# Altium schematic symbol library RobotKit.SchLib: 64 symbols
Pins are listed as number, name and electrical type; pins without a type are passive.

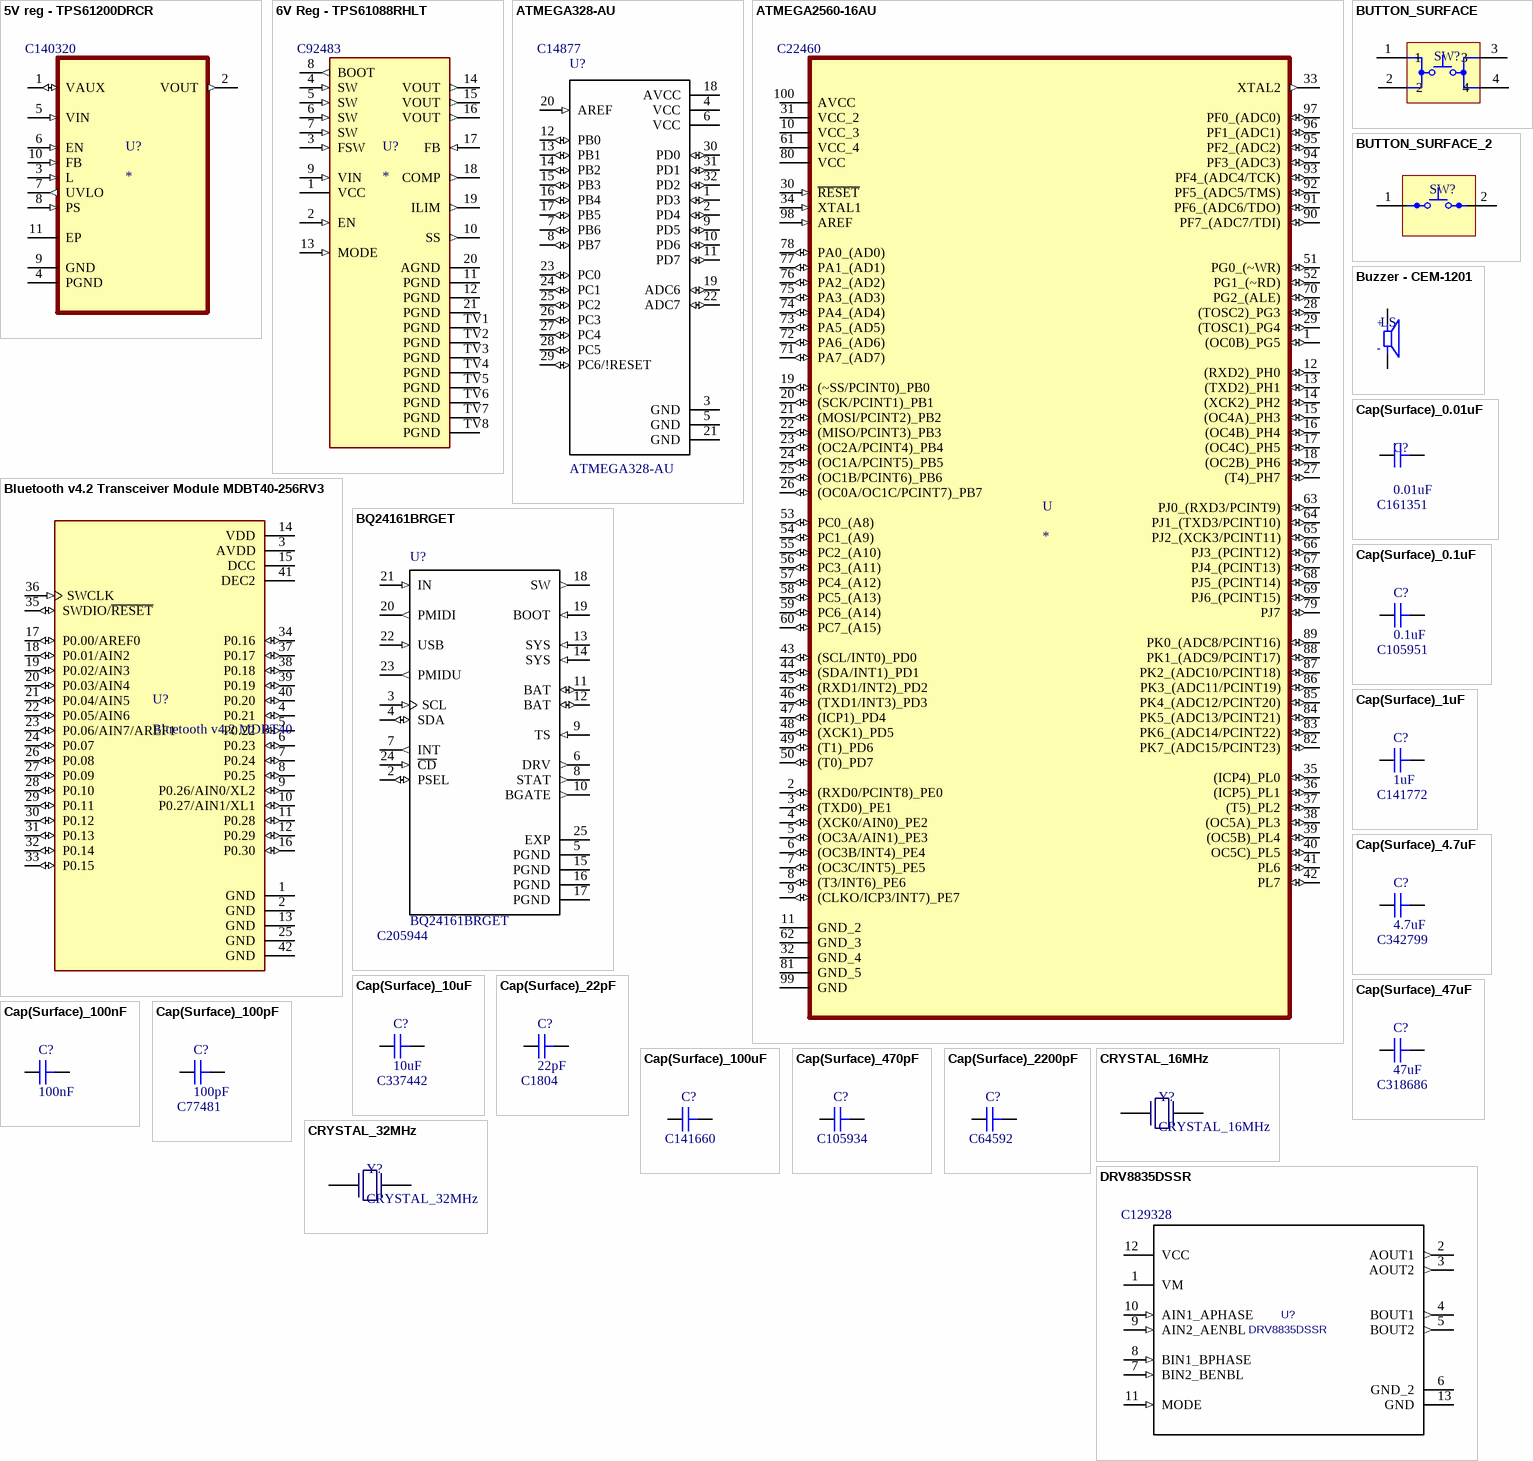
[diagram p0: symbols 5V reg - TPS61200DRCR to DRV8835DSSR]

## 5V reg - TPS61200DRCR
designator U?  Supplier Part Number 1: C140320
Boost Switching Regulator IC Positive Adjustable 1.8V 1 Output 1.2A _Switch_ 10-VFDFN Exposed Pad; MP: TPS61200DRCR; MF: Texas Instruments; Package: VFDFN-10 Texas Instruments; Price: None; Availability: Unavailable; Value: *; SnapEDA_Link: https://www.snapeda.com/parts/TPS61200DRCR/Texas%20Instruments/view-part/48003/?ref=snap; Supplier 1: LCSC
footprint 5V Reg - SON50P300X300X100-11N
pins: 1 VAUX (io), 2 VOUT (out), 3 L (in), 4 PGND, 5 VIN (in), 6 EN (in), 7 UVLO (out), 8 PS (in), 9 GND, 10 FB (in), 11 EP

## 6V Reg - TPS61088RHLT
designator U?  Supplier Part Number 1: C92483
Boost Switching Regulator IC Positive Adjustable 4.5V 1 Output 10A 20-VFQFN Exposed Pad; MF: Texas Instruments; MP: TPS61088RHLT; Price: None; Value: *; Package: VQFN-20 Texas Instruments; SnapEDA_Link: https://www.snapeda.com/parts/TPS61088RHLT/Texas%20Instruments/view-part/229886/?ref=snap; Availability: Unavailable; Supplier 1: LCSC
footprint 6V Reg - CONV_TPS61088RHLT
pins: 1 VCC (power), 2 EN (in), 3 FSW (in), 4 SW (in), 5 SW (in), 6 SW (in), 7 SW (in), 8 BOOT (out), 9 VIN (in), 10 SS (out), 11 PGND (power), 12 PGND (power), 13 MODE (in), 14 VOUT (out), 15 VOUT (out), 16 VOUT (out), 17 FB (in), 18 COMP (out), 19 ILIM (out), 20 AGND (power), 21 PGND (power), TV1 PGND (power), TV2 PGND (power), TV3 PGND (power), TV4 PGND (power), TV5 PGND (power), TV6 PGND (power), TV7 PGND (power), TV8 PGND (power)

## ATMEGA328-AU
designator U?  Supplier Part Number 1: C14877
AVR AVRÂ® ATmega Microcontroller IC 8-Bit 20MHz 32KB _16K x 16_ FLASH 32-TQFP _7x7_; MF: Microchip; Package: TQFP-32 Microchip; MP: ATMEGA328-AU; SnapEDA_Link: https://www.snapeda.com/parts/ATMEGA328-AU/Microchip/view-part/1227240/?ref=snap; Availability: Unavailable; Price: None; Value: *; Supplier 1: LCSC
footprint ATMEGA328 - QFP80P900X900X120-32N
pins: 1 PD3 (io), 2 PD4 (io), 3 GND (power), 4 VCC (power), 5 GND (power), 6 VCC (power), 7 PB6 (io), 8 PB7 (io), 9 PD5 (io), 10 PD6 (io), 11 PD7 (io), 12 PB0 (io), 13 PB1 (io), 14 PB2 (io), 15 PB3 (io), 16 PB4 (io), 17 PB5 (io), 18 AVCC (power), 19 ADC6 (io), 20 AREF (in), 21 GND (power), 22 ADC7 (io), 23 PC0 (io), 24 PC1 (io), 25 PC2 (io), 26 PC3 (io), 27 PC4 (io), 28 PC5 (io), 29 PC6/!RESET (io), 30 PD0 (io), 31 PD1 (io), 32 PD2 (io)

## ATMEGA2560-16AU
designator U  Supplier Part Number 1: C22460
AVR AVRÂ® ATmega Microcontroller IC 8-Bit 16MHz 256KB _128K x 16_ FLASH 100-TQFP _14x14_; MF: Microchip; MP: ATMEGA2560-16AU; Package: TQFP-100 Adesto Technologies; Price: None; Availability: Unavailable; SnapEDA_Link: https://www.snapeda.com/parts/ATMEGA2560-16AU/Microchip/view-part/54180/?ref=snap; Value: *; Supplier 1: LCSC
footprint ATMEGA2560-16AU
pins: 1 (OC0B)_PG5 (io), 2 (RXD0/PCINT8)_PE0 (io), 3 (TXD0)_PE1 (io), 4 (XCK0/AIN0)_PE2 (io), 5 (OC3A/AIN1)_PE3 (io), 6 (OC3B/INT4)_PE4 (io), 7 (OC3C/INT5)_PE5 (io), 8 (T3/INT6)_PE6 (io), 9 (CLKO/ICP3/INT7)_PE7 (io), 10 VCC_3 (power), 11 GND_2, 12 (RXD2)_PH0 (io), 13 (TXD2)_PH1 (io), 14 (XCK2)_PH2 (io), 15 (OC4A)_PH3 (io), 16 (OC4B)_PH4 (io), 17 (OC4C)_PH5 (io), 18 (OC2B)_PH6 (io), 19 (~SS/PCINT0)_PB0 (io), 20 (SCK/PCINT1)_PB1 (io), 21 (MOSI/PCINT2)_PB2 (io), 22 (MISO/PCINT3)_PB3 (io), 23 (OC2A/PCINT4)_PB4 (io), 24 (OC1A/PCINT5)_PB5 (io), 25 (OC1B/PCINT6)_PB6 (io), 26 (OC0A/OC1C/PCINT7)_PB7 (io), 27 (T4)_PH7 (io), 28 (TOSC2)_PG3 (io), 29 (TOSC1)_PG4 (io), 30 ~{RESET} (in), 31 VCC_2 (power), 32 GND_4, 33 XTAL2 (out), 34 XTAL1 (in), 35 (ICP4)_PL0 (io), 36 (ICP5)_PL1 (io), 37 (T5)_PL2 (io), 38 (OC5A)_PL3 (io), 39 (OC5B)_PL4 (io), 40 OC5C)_PL5 (io), 41 PL6 (io), 42 PL7 (io), 43 (SCL/INT0)_PD0 (io), 44 (SDA/INT1)_PD1 (io), 45 (RXD1/INT2)_PD2 (io), 46 (TXD1/INT3)_PD3 (io), 47 (ICP1)_PD4 (io), 48 (XCK1)_PD5 (io), 49 (T1)_PD6 (io), 50 (T0)_PD7 (io), 51 PG0_(~WR) (io), 52 PG1_(~RD) (io), 53 PC0_(A8) (io), 54 PC1_(A9) (io), 55 PC2_(A10) (io), 56 PC3_(A11) (io), 57 PC4_(A12) (io), 58 PC5_(A13) (io), 59 PC6_(A14) (io), 60 PC7_(A15) (io), 61 VCC_4 (power), 62 GND_3, 63 PJ0_(RXD3/PCINT9) (io), 64 PJ1_(TXD3/PCINT10) (io), 65 PJ2_(XCK3/PCINT11) (io), 66 PJ3_(PCINT12) (io), 67 PJ4_(PCINT13) (io), 68 PJ5_(PCINT14) (io), 69 PJ6_(PCINT15) (io), 70 PG2_(ALE) (io), 71 PA7_(AD7) (io), 72 PA6_(AD6) (io), 73 PA5_(AD5) (io), 74 PA4_(AD4) (io), 75 PA3_(AD3) (io), 76 PA2_(AD2) (io), 77 PA1_(AD1) (io), 78 PA0_(AD0) (io), 79 PJ7 (io), 80 VCC (power), 81 GND_5, 82 PK7_(ADC15/PCINT23) (io), 83 PK6_(ADC14/PCINT22) (io), 84 PK5_(ADC13/PCINT21) (io), 85 PK4_(ADC12/PCINT20) (io), 86 PK3_(ADC11/PCINT19) (io), 87 PK2_(ADC10/PCINT18) (io), 88 PK1_(ADC9/PCINT17) (io), 89 PK0_(ADC8/PCINT16) (io), 90 PF7_(ADC7/TDI) (io), 91 PF6_(ADC6/TDO) (io), 92 PF5_(ADC5/TMS) (io), 93 PF4_(ADC4/TCK) (io), 94 PF3_(ADC3) (io), 95 PF2_(ADC2) (io), 96 PF1_(ADC1) (io), 97 PF0_(ADC0) (io), 98 AREF (in), 99 GND, 100 AVCC (power)

## Bluetooth v4.2 Transceiver Module MDBT40-256RV3
designator U?, comment Bluetooth v4.2 MDBT40
Bluetooth Bluetooth v4.2 Transceiver Module 2.4GHz ~ 2.483GHz Integrated, Chip Surface Mount; MF: Raytac Corporation; MP: MDBT40-256RV3; Package: SMD-42 Raytac Corporation; Value: *; Price: None; SnapEDA_Link: https://www.snapeda.com/parts/MDBT40-256RV3/Raytac%20Corporation/view-part/4503298/?ref=snap; Availability: Unavailable
footprint Bluetooth v4.2 Transceiver Module MODULE_MDBT40-256RV3
pins: 1 GND (power), 2 GND (power), 3 AVDD (power), 4 P0.21 (io), 5 P0.22 (io), 6 P0.23 (io), 7 P0.24 (io), 8 P0.25 (io), 9 P0.26/AIN0/XL2 (io), 10 P0.27/AIN1/XL1 (io), 11 P0.28 (io), 12 P0.29 (io), 13 GND (power), 14 VDD (power), 15 DCC (power), 16 P0.30 (io), 17 P0.00/AREF0 (io), 18 P0.01/AIN2 (io), 19 P0.02/AIN3 (io), 20 P0.03/AIN4 (io), 21 P0.04/AIN5 (io), 22 P0.05/AIN6 (io), 23 P0.06/AIN7/AREF1 (io), 24 P0.07 (io), 25 GND (power), 26 P0.08 (io), 27 P0.09 (io), 28 P0.10 (io), 29 P0.11 (io), 30 P0.12 (io), 31 P0.13 (io), 32 P0.14 (io), 33 P0.15 (io), 34 P0.16 (io), 35 SWDIO/~{RESET} (io), 36 SWCLK (in), 37 P0.17 (io), 38 P0.18 (io), 39 P0.19 (io), 40 P0.20 (io), 41 DEC2 (power), 42 GND (power)

## BQ24161BRGET
designator U?  Supplier Part No: C205944
Charger IC Lithium Ion/Polymer 24-VQFN _4x4_; MF: Texas Instruments; Package: VQFN-24 Texas Instruments; Price: None; MP: BQ24161BRGET; SnapEDA_Link: https://www.snapeda.com/parts/BQ24161BRGET/Texas%20Instruments/view-part/320940/?ref=snap; Availability: Unavailable; Value: *
footprint QFN50P - Charging Circuit ((Charging)QFN50P400X400X100-25N)
pins: 2 PSEL (io), 3 SCL (in), 4 SDA (io), 5 PGND (power), 6 DRV (out), 7 INT (out), 8 STAT (out), 9 TS (in), 10 BGATE (out), 11 BAT (io), 12 BAT (io), 13 SYS (in), 14 SYS (in), 15 PGND (power), 16 PGND (power), 17 PGND (power), 18 SW (out), 19 BOOT (in), 20 PMIDI (out), 21 IN (in), 22 USB (in), 23 PMIDU (out), 24 ~{CD} (in), 25 EXP (power)

## BUTTON_SURFACE
designator SW?
ALCOSWITCH - TE CONNECTIVITY - RESET BUTTON; Manufacturer: TE Connectivity Alcoswitch; Manufacturer Part Number: 1825910-6; Actuator Color: Black; Actuator Length: 1.4 mm; Actuator Material: Polybutylene Terephthalate; Body Orientation: Straight; Actuator Style: Round Button; Bushing Type: Unthreaded; Electrical Life: 100000 Cycles; Dielectric Strength: 500 VAC; Contact Rating @ Voltage: 0.05A@24VDC; Function: Momentary Contact; Maximum DC Voltage Rating: 24 V; Pole Throw Configuration: SPST; Maximum Contact Resistance: 100 mOhm; Illumination: N/R; Switch Configuration: OFF (ON); Supplier 1: Digi-Key; Stock 1: 77076; Pricing 1: 1=0.1, 10=0.093, 25=0.0892, 50=0.0862, 100=0.0814, 250=0.0766, 500=0.0734, 1000=0.0558, 5000=0.0463 (USD); Base Material: N/A; Family: 1825910; Contact Material: Copper Alloy; Contact Plating: Silver; Dimension: 5.99 x 5 mm; Part No: 1825910-6; RoHS: Yes; Maximum AC Voltage Rating: N/A; Mechanical Life: 100000 Cycles; Packaging: N/A; Housing Material: N/A; Product Weight: N/A; Mounting: Through Hole; Minimum Insulation Resistance: 100 MOhm; Operating Temperature: -35 to 85 C; Terminal Type: PC Pins; Seal Description: N/A; Seal Location: N/A; Thread Size: N/R; ComponentLink1URL: http://www.onlinecomponents.com/productFiles/mf-AMP/1825910-6rqpn1825910-6.pdf?src-supplier=Onlinecomponents.com; ComponentLink1Description: http://www.onlinecomponents.com/productFiles/mf-AMP/1825910-6rqpn1825910-6.pdf?src-supplier=Onlinecomponents.com; ComponentLink2URL: http://www.te.com/commerce/DocumentDelivery/DDEController?Action=srchrtrv&DocNm=1825910&DocType=Customer+Drawing&DocLang=English&src-supplier=Verical; ComponentLink2Description: http://www.te.com/commerce/DocumentDelivery/DDEController?Action=srchrtrv&DocNm=1825910&DocType=Customer+Drawing&DocLang=English&src-supplier=Verical; Supplier Part Number 1: 450-1650-ND
footprint SW_SMD_(button)
pins: 1, 2, 3, 4

## BUTTON_SURFACE_2
designator SW?
ALCOSWITCH - TE CONNECTIVITY - RESET BUTTON
footprint PUSH_BUTTON
pins: 1, 2

## Buzzer - CEM-1201
designator LS
12 mm, 1,5 V, 85 dB, furo passante, campainha elÃ©trica transdutora de Ã¡udio magnÃ©tica; MF: CUI Devices; MP: CEM-1201_42_; CUI_purchase_URL: https://www.cuidevices.com/product/audio/buzzers/audio-transducers/cem-1201_42_?utm_source=snapeda.com&utm_medium=referral&utm_campaign=snapedaBOM; Price: None; SnapEDA_Link: https://www.snapeda.com/parts/CEM-1201%2842%29/CUI%20Devices/view-part/2755977/?ref=snap; Value: *; Availability: Unavailable; Package: CUI Inc.
footprint Buzzer CUI_CEM-1201(42)
pins: M, P
text: +; -

## Cap(Surface)_0.01uF
designator C?, comment 0.01uF  Supplier Part No: C161351
Capacitor; Published: 23-Sep-2002; PackageReference: CAPR5-4X5; Publisher: Altium Limited; PackageDescription: Capacitor; 2 Leads; Value: 0.01uF; Supplier: LCSC
simulation model CAP (Capacitor)
signal-integrity model Cap
footprint CAP (0805)
pins: 1, 2

## Cap(Surface)_0.1uF
designator C?, comment 0.1uF  Supplier Part No: C105951
Capacitor; Published: 23-Sep-2002; PackageReference: CAPR5-4X5; Publisher: Altium Limited; PackageDescription: Capacitor; 2 Leads; Value: 0.1uF; Supplier: LCSC
simulation model CAP (Capacitor)
signal-integrity model Cap
footprint CAP (0805)
pins: 1, 2

## Cap(Surface)_1uF
designator C?, comment 1uF  Supplier Part No: C141772
Capacitor; Published: 23-Sep-2002; PackageReference: CAPR5-4X5; Publisher: Altium Limited; PackageDescription: Capacitor; 2 Leads; Value: 1uF; Supplier: LCSC
simulation model CAP (Capacitor)
signal-integrity model Cap
footprint CAP (0805)
pins: 1, 2

## Cap(Surface)_4.7uF
designator C?, comment 4.7uF  Supplier Part No: C342799
Capacitor; Published: 23-Sep-2002; PackageReference: CAPR5-4X5; Publisher: Altium Limited; PackageDescription: Capacitor; 2 Leads; Value: 4.7uF; Supplier: LCSC
simulation model CAP (Capacitor)
signal-integrity model Cap
footprint CAP (0805)
pins: 1, 2

## Cap(Surface)_10uF
designator C?, comment 10uF  Supplier Part No: C337442
Capacitor; Published: 23-Sep-2002; PackageReference: CAPR5-4X5; Publisher: Altium Limited; PackageDescription: Capacitor; 2 Leads; Value: 10uF; Supplier: LCSC
simulation model CAP (Capacitor)
signal-integrity model Cap
footprint CAP (0805)
pins: 1, 2

## Cap(Surface)_22pF
designator C?, comment 22pF  Supplier Part No: C1804
Capacitor; Published: 23-Sep-2002; PackageReference: CAPR5-4X5; Publisher: Altium Limited; PackageDescription: Capacitor; 2 Leads; Value: 22pF; Supplier: LCSC
simulation model CAP (Capacitor)
signal-integrity model Cap
footprint CAP (0805)
pins: 1, 2

## Cap(Surface)_47uF
designator C?, comment 47uF  Supplier Part No: C318686
Capacitor; Published: 23-Sep-2002; PackageReference: CAPR5-4X5; Publisher: Altium Limited; PackageDescription: Capacitor; 2 Leads; Value: 47uF; Supplier Name: LCSC
simulation model CAP (Capacitor)
signal-integrity model Cap
footprint CAP (0805)
pins: 1, 2

## Cap(Surface)_100nF
designator C?, comment 100nF
Capacitor; Published: 23-Sep-2002; PackageReference: CAPR5-4X5; Publisher: Altium Limited; PackageDescription: Capacitor; 2 Leads; Supplier 1: LCSC; Supplier Part Number 1: C307361; Value: 100nF
simulation model CAP (Capacitor)
signal-integrity model Cap
footprint CAP (0805)
pins: 1, 2

## Cap(Surface)_100pF
designator C?, comment 100pF  Supplier Part No: C77481
Capacitor; Published: 23-Sep-2002; PackageReference: CAPR5-4X5; Publisher: Altium Limited; PackageDescription: Capacitor; 2 Leads; Value: 100pF; Supplier: LCSC
simulation model CAP (Capacitor)
signal-integrity model Cap
footprint CAP (0805)
pins: 1, 2

## Cap(Surface)_100uF
designator C?, comment Supplier Part no: C141660  (hidden comment: 100uF)
Capacitor; Published: 23-Sep-2002; PackageReference: CAPR5-4X5; Publisher: Altium Limited; PackageDescription: Capacitor; 2 Leads; Value: 100uF; Supplier: LCSC
simulation model CAP (Capacitor)
signal-integrity model Cap
footprint CAP (0805)
pins: 1, 2

## Cap(Surface)_470pF
designator C?, comment Supplier Part No: C105934  (hidden comment: 470pF)
Capacitor; Published: 23-Sep-2002; PackageReference: CAPR5-4X5; Publisher: Altium Limited; PackageDescription: Capacitor; 2 Leads; Value: 470pF; Supplier: LCSC
simulation model CAP (Capacitor)
signal-integrity model Cap
footprint CAP (0805)
pins: 1, 2

## Cap(Surface)_2200pF
designator C?, comment Supplier Part No: C64592  (hidden comment: 2200pF)
Capacitor; Published: 23-Sep-2002; PackageReference: CAPR5-4X5; Publisher: Altium Limited; PackageDescription: Capacitor; 2 Leads; Value: 2200pF; Supplier: LCSC
simulation model CAP (Capacitor)
signal-integrity model Cap
footprint CAP (0805)
pins: 1, 2

## CRYSTAL_16MHz
designator Y?
Manufacturer: ECS International; Manufacturer Part Number: ECS-160-20-4X; Brand: ECS; Case Height: 3.5 mm; Case Length: 11.35 mm; Case Width: 4.65 mm; Frequency: 16 MHz; Frequency Stability: 50 PPM; Load Capacitance: 20 pF; Tolerance: 30 PPM; Dimensions: 4.65 mm W x 11.35 mm L x 3.5 mm H; Factory Pack Quantity: 200; Package / Case: HC-49/US; Operating Temperature Range: - 10 C to + 70 C; Packaging: Bulk; Mounting Style: Through Hole; Product Category: Crystals; RoHS: Details; Termination Style: Radial; Series: HCS49USX; Type: Quartz Crystals; ComponentLink1URL: http://www.ecsxtal.com/store/pdf/partnumber4.pdf?src-supplier=Digi-Key; ComponentLink1Description: http://www.ecsxtal.com/store/pdf/partnumber4.pdf?src-supplier=Digi-Key; Supplier Part No: C259047; Supplier: LCSC
footprint CRYSTAL_16MHz
footprint OSCILLATOR-RESC3215X64N
pins: 1, 2

## CRYSTAL_32MHz
designator Y?
Manufacturer: ECS International; Manufacturer Part Number: ECS-160-20-4X; Brand: ECS; Frequency: 16 MHz; Frequency Stability: 50 PPM; Load Capacitance: 20 pF; Tolerance: 30 PPM; Factory Pack Quantity: 200; Operating Temperature Range: - 10 C to + 70 C; Mounting Style: Through Hole; Product Category: Crystals; RoHS: Details; Termination Style: Radial; Series: HCS49USX; Type: Quartz Crystals; ComponentLink1URL: http://www.ecsxtal.com/store/pdf/partnumber4.pdf?src-supplier=Digi-Key; ComponentLink1Description: http://www.ecsxtal.com/store/pdf/partnumber4.pdf?src-supplier=Digi-Key
footprint OSCILLATOR-RESC3215X64N
pins: 1, 2

## DRV8835DSSR
designator U?  Supplier Part Number 1: C129328
Motor driver dual h bridge; Manufacturer: Texas Instruments; PartNumber: DRV8835DSSR; Value: Value; Supplier 1: LCSC
footprint DRV8835 (Dual H bridge motor driver)
pins: 1 VM (power), 2 AOUT1 (out), 3 AOUT2 (out), 4 BOUT1 (out), 5 BOUT2 (out), 6 GND_2 (power), 7 BIN2_BENBL (in), 8 BIN1_BPHASE (in), 9 AIN2_AENBL (in), 10 AIN1_APHASE (in), 11 MODE (in), 12 VCC (power), 13 GND (power)

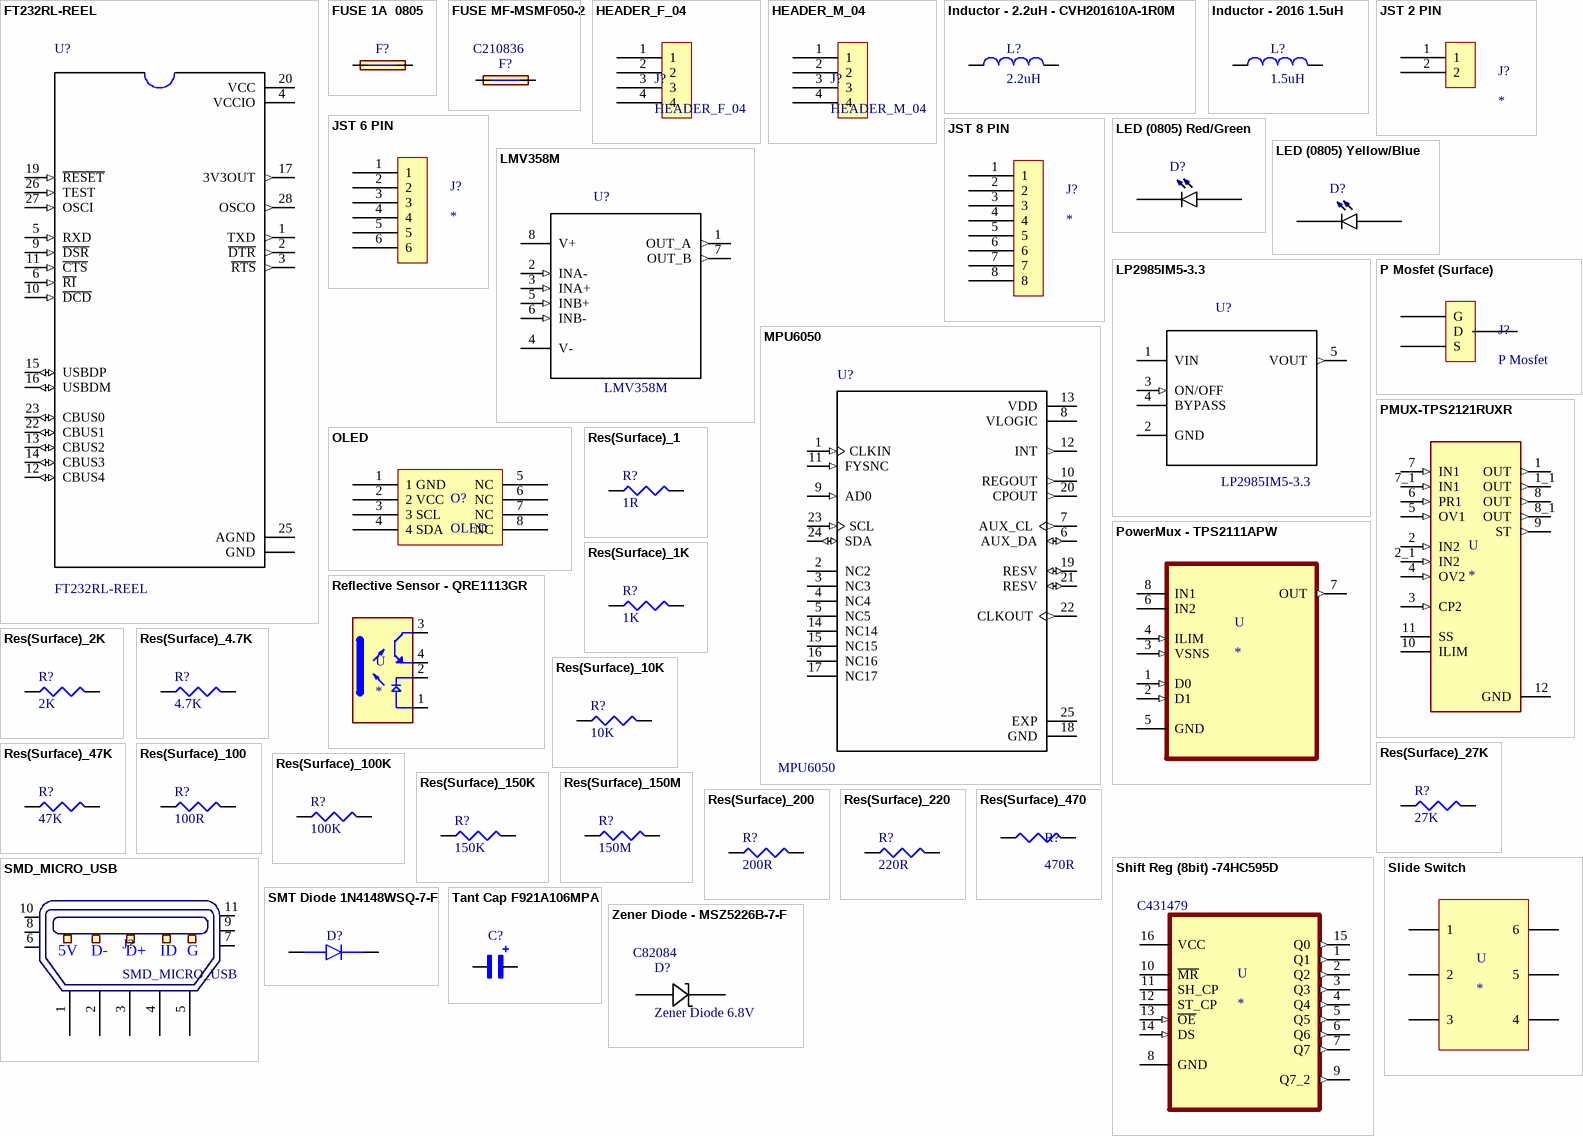
[diagram p1: symbols FT232RL-REEL to Zener Diode - MSZ5226B-7-F]

## FT232RL-REEL
designator U?
USB Bridge, USB to UART USB 2.0 UART Interface 28-SSOP; MF: FTDI,; Package: SSOP-28 FTDI; MP: FT232RL-REEL; SnapEDA_Link: https://www.snapeda.com/parts/FT232RL-REEL/FTDI%2C%20Future%20Technology%20Devices%20International%20Ltd/view-part/45427/?ref=snap; Availability: Unavailable; Price: None; Value: *; Supplier Part No: C8690; Supplier: LCSC
footprint SOP65P780X200 - FTDI (FTDI usb to serial convertor)
pins: 1 TXD (out), 2 ~{DTR} (out), 3 ~{RTS} (out), 4 VCCIO (power), 5 RXD (in), 6 ~{RI} (in), 7 GND, 9 ~{DSR} (in), 10 ~{DCD} (in), 11 ~{CTS} (in), 12 CBUS4 (io), 13 CBUS2 (io), 14 CBUS3 (io), 15 USBDP (io), 16 USBDM (io), 17 3V3OUT (out), 18 GND, 19 ~{RESET} (in), 20 VCC (power), 21 GND, 22 CBUS1 (io), 23 CBUS0 (io), 25 AGND, 26 TEST (in), 27 OSCI (in), 28 OSCO (out)

## FUSE 1A  0805
designator F?
Polymeric PTC Resettable Fuse 15V 500mA Ih Surface Mount 1812 _4532 Metric_, Concave; MF: Bourns; MP: MF-MSMF050-2; Value: *; Package: 1812 Bourns; Availability: Unavailable; SnapEDA_Link: https://www.snapeda.com/parts/MF-MSMF050-2/Bourns%20-%20J.W.%20Miller/view-part/42625/?ref=snap; Price: None; Supplier Part No: C17313; Supplier: LCSC
footprint FUSE - 0805
pins: 1, 2

## FUSE MF-MSMF050-2
designator F?  Supplier Part Number 1: C210836
Polymeric PTC Resettable Fuse 15V 500mA Ih Surface Mount 1812 _4532 Metric_, Concave; MF: Bourns; MP: MF-MSMF050-2; Value: *; Package: 1812 Bourns; Availability: Unavailable; SnapEDA_Link: https://www.snapeda.com/parts/MF-MSMF050-2/Bourns%20-%20J.W.%20Miller/view-part/42625/?ref=snap; Price: None; Supplier 1: LCSC
footprint FUSE M1812X02
pins: 1, 2

## HEADER_F_04
designator J?
Manufacturer: Wurth Electronics; Manufacturer Part Number: 61300311121; Connector Type: Header, Unshrouded; Number of Positions: 4; Number of Positions Loaded: All; Pitch: 0.100" (2.54mm); Category: Connectors, Interconnects; Family: Rectangular Connectors - Headers, Male Pins; Series: WR-PHD; Packaging: Bulk; Contact Type: Male Pin; Number of Rows: 1; Row Spacing: -; Contact Mating Length: 0.236" (6.00mm); Mounting Type: Through Hole; Termination: Solder; Fastening Type: -; Features: -; Contact Finish: Gold; Contact Finish Thickness: -; Color: Black; Supplier 1: Digi-Key; Supplier Part Number 1: 732-5317-ND
footprint HEADER_F_04
pins: 1, 2, 3, 4

## HEADER_M_04
designator J?
Manufacturer: Wurth Electronics; Manufacturer Part Number: 61300311121; Connector Type: Header, Unshrouded; Number of Positions: 4; Number of Positions Loaded: All; Pitch: 0.100" (2.54mm); Category: Connectors, Interconnects; Family: Rectangular Connectors - Headers, Male Pins; Series: WR-PHD; Packaging: Bulk; Contact Type: Male Pin; Number of Rows: 1; Row Spacing: -; Contact Mating Length: 0.236" (6.00mm); Mounting Type: Through Hole; Termination: Solder; Fastening Type: -; Features: -; Contact Finish: Gold; Contact Finish Thickness: -; Color: Black; Supplier 1: Digi-Key; Supplier Part Number 1: 732-5317-ND
footprint HEADER_M_04
pins: 1, 2, 3, 4

## Inductor - 2.2uH - CVH201610A-1R0M
designator L?, comment 2.2uH
1ÂµH Shielded Multilayer Inductor 1.4A 106.25mOhm Max 0806 _2016 Metric_; MF: Bourns; MP: CVH201610A-1R0M; Value: *; Price: None; Availability: Unavailable; Package: 2016 Taiyo Yuden; SnapEDA_Link: https://www.snapeda.com/parts/CVH201610A-1R0M/Bourns/view-part/4258525/?ref=snap; Supplier Part No: C375949; Supplier: LCSC
footprint INDUCTOR _ C2016X100N
pins: 1, 2

## Inductor - 2016 1.5uH
designator L?, comment 1.5uH
1ÂµH Shielded Multilayer Inductor 1.4A 106.25mOhm Max 0806 _2016 Metric_; MF: Bourns; MP: CVH201610A-1R0M; Value: *; Price: None; Availability: Unavailable; Package: 2016 Taiyo Yuden; SnapEDA_Link: https://www.snapeda.com/parts/CVH201610A-1R0M/Bourns/view-part/4258525/?ref=snap; Supplier Part No: C375943; Supplier: LCSC
footprint INDUCTOR _ C2016X100N
pins: 1, 2

## JST 2 PIN
designator J?
JST (JAPAN SOLDERLESS TERMINALS) - B8B-XH-A (LF)(SN) - HEADER, VERTICAL, 8WAY; No of Positions: 8; Pitch: 2.5 mm; Style/Orientation: Straight Header/Plug; Supplier 1: Digi-Key; Manufacturer: JST; Manufacturer Part Number: B8B-XH-A(LF)(SN); Stock 1: 29643; Pricing 1: 1=0.36, 10=0.341, 100=0.2387, 500=0.2046, 1000=0.1705, 5000=0.1461, 10000=0.1364 (USD); Type: Shrouded Header; Termination: Crimp; ComponentLink1URL: https://www.verical.com/server-webapp/html/getDatasheet?partID=440408&src-supplier=Verical; ComponentLink1Description: https://www.verical.com/server-webapp/html/getDatasheet?partID=440408&src-supplier=Verical; Supplier Part Number 1: 455-2251-ND
footprint JST2
pins: 1, 2

## JST 6 PIN
designator J?
JST (JAPAN SOLDERLESS TERMINALS) - B8B-XH-A (LF)(SN) - HEADER, VERTICAL, 8WAY; No of Positions: 8; Pitch: 2.5 mm; Style/Orientation: Straight Header/Plug; Supplier 1: Digi-Key; Manufacturer: JST; Manufacturer Part Number: B8B-XH-A(LF)(SN); Stock 1: 29643; Pricing 1: 1=0.36, 10=0.341, 100=0.2387, 500=0.2046, 1000=0.1705, 5000=0.1461, 10000=0.1364 (USD); Type: Shrouded Header; Termination: Crimp; ComponentLink1URL: https://www.verical.com/server-webapp/html/getDatasheet?partID=440408&src-supplier=Verical; ComponentLink1Description: https://www.verical.com/server-webapp/html/getDatasheet?partID=440408&src-supplier=Verical; Supplier Part Number 1: 455-2251-ND
footprint JST6
pins: 1, 2, 3, 4, 5, 6

## JST 8 PIN
designator J?
JST (JAPAN SOLDERLESS TERMINALS) - B8B-XH-A (LF)(SN) - HEADER, VERTICAL, 8WAY; No of Positions: 8; Pitch: 2.5 mm; Style/Orientation: Straight Header/Plug; Supplier 1: Digi-Key; Manufacturer: JST; Manufacturer Part Number: B8B-XH-A(LF)(SN); Stock 1: 29643; Pricing 1: 1=0.36, 10=0.341, 100=0.2387, 500=0.2046, 1000=0.1705, 5000=0.1461, 10000=0.1364 (USD); Type: Shrouded Header; Termination: Crimp; ComponentLink1URL: https://www.verical.com/server-webapp/html/getDatasheet?partID=440408&src-supplier=Verical; ComponentLink1Description: https://www.verical.com/server-webapp/html/getDatasheet?partID=440408&src-supplier=Verical; Supplier Part Number 1: 455-2251-ND
footprint JST8
pins: 1, 2, 3, 4, 5, 6, 7, 8

## LED (0805) Red/Green
designator D?, comment LED 0805 Red/Green  (value not drawn)
Blue 473nm LED Indication - Discrete 3.2V 0805 _2012 Metric_; MP: 598-8191-107F; MF: Dialight; Availability: Unavailable; Package: 0805 Dialight; Price: None; SnapEDA_Link: https://www.snapeda.com/parts/598-8191-107F/Dialight/view-part/432480/?ref=snap; Value: *; Supplier: LCSC; Supplier Part No: C264540
footprint LED (0805) (LEDC2012X70N_598-8191-107F(Primar))
pins: A, C

## LED (0805) Yellow/Blue
designator D?, comment LED 0805 Yellow/Blue  (value not drawn)
Blue 473nm LED Indication - Discrete 3.2V 0805 _2012 Metric_; MP: 598-8191-107F; MF: Dialight; Availability: Unavailable; Package: 0805 Dialight; Price: None; SnapEDA_Link: https://www.snapeda.com/parts/598-8191-107F/Dialight/view-part/432480/?ref=snap; Value: *; Supplier Part No: C264545; Supplier: LCSC
footprint LED (0805) (LEDC2012X70N_598-8191-107F(Primar))
pins: A, C

## LMV358M
designator U?
Opamp; SnapEDA_Link: https://www.snapeda.com/parts/LMV358M/Texas%20Instruments/view-part/26831/?ref=snap; Value: *; Supplier Part No: C234204; Supplier: LCSC
footprint LMV358 (LMV358SOIC127P620X175-8N Power mux)
pins: 1 OUT_A (out), 2 INA- (in), 3 INA+ (in), 4 V- (power), 5 INB+ (in), 6 INB- (in), 7 OUT_B (out), 8 V+ (power)
2 alternate drawings of the same symbol

## LP2985IM5-3.3
designator U?
Linear Voltage Regulator IC 1 Output 150mA SOT-23-5; MP: LP2985IM533; MF: Texas Instruments; Price: None; Package: SOT-23 Texas Instruments; Availability: Unavailable; SnapEDA_Link: https://www.snapeda.com/parts/LP2985IM533/Texas%20Instruments/view-part/23851/?ref=snap; Value: *; Supplier 1: LCSC; Supplier Part Number 1: C95414
footprint SOT95P (LP2985) (LP2985 - SOT95P285X120-5N(LP2985))
pins: 1 VIN (power), 2 GND, 3 ON/OFF (in), 4 BYPASS, 5 VOUT (out)

## MPU6050
designator U?
Accelerometer, Gyroscope, 6 Axis Sensor IÂ²C Output; MF: TDK InvenSense; Price: None; SnapEDA_Link: https://www.snapeda.com/parts/MPU6050/TDK%20InvenSense/view-part/3605706/?ref=snap; MP: MPU6050; Package: VFQFN-24 TDK InvenSense; Availability: Unavailable; Value: *; Supplier 1: LCSC; Supplier Part Number 1: C24112
footprint MPU6050
pins: 1 CLKIN (in), 2 NC2, 3 NC3, 4 NC4, 5 NC5, 6 AUX_DA (io), 7 AUX_CL (out), 8 VLOGIC (power), 9 AD0 (in), 10 REGOUT (out), 11 FYSNC (in), 12 INT (out), 13 VDD (power), 14 NC14, 15 NC15, 16 NC16, 17 NC17, 18 GND (power), 19 RESV (io), 20 CPOUT (out), 21 RESV (io), 22 CLKOUT (out), 23 SCL (in), 24 SDA (io), 25 EXP (power)

## OLED
designator O?
JST (JAPAN SOLDERLESS TERMINALS) - B8B-XH-A (LF)(SN) - HEADER, VERTICAL, 8WAY; No of Positions: 8; Pitch: 2.5 mm; Style/Orientation: Straight Header/Plug; Supplier 1: Digi-Key; Manufacturer: JST; Manufacturer Part Number: B8B-XH-A(LF)(SN); Stock 1: 29643; Pricing 1: 1=0.36, 10=0.341, 100=0.2387, 500=0.2046, 1000=0.1705, 5000=0.1461, 10000=0.1364 (USD); Type: Shrouded Header; Termination: Crimp; ComponentLink1URL: https://www.verical.com/server-webapp/html/getDatasheet?partID=440408&src-supplier=Verical; ComponentLink1Description: https://www.verical.com/server-webapp/html/getDatasheet?partID=440408&src-supplier=Verical; Supplier Part Number 1: 455-2251-ND
footprint OLED
pins: 1 1 GND, 2 2 VCC, 3 3 SCL, 4 4 SDA, 5 NC, 6 NC, 7 NC, 8 NC

## P Mosfet (Surface)
designator J?, comment P Mosfet
JST (JAPAN SOLDERLESS TERMINALS) - B8B-XH-A (LF)(SN) - HEADER, VERTICAL, 8WAY; No of Positions: 8; Pitch: 2.5 mm; Style/Orientation: Straight Header/Plug; Manufacturer: JST; Manufacturer Part Number: B8B-XH-A(LF)(SN); Type: Shrouded Header; Termination: Crimp; ComponentLink1URL: https://www.verical.com/server-webapp/html/getDatasheet?partID=440408&src-supplier=Verical; ComponentLink1Description: https://www.verical.com/server-webapp/html/getDatasheet?partID=440408&src-supplier=Verical; Supplier Part No: C154867; Supplier: LCSC
footprint P Mosfet smd
pins: 1 G, 2 S, 3 D

## PMUX-TPS2121RUXR
designator U
General Purpose PMIC 12-VQFN-HR _2x2.5_; MF: Texas Instruments; MP: TPS2121RUXR; SnapEDA_Link: https://www.snapeda.com/parts/TPS2121RUXR/Texas%20Instruments/view-part/3217696/?ref=snap; Digi-Key_Part_Number: 296-53410-1-ND; Value: *; Digi-Key_Purchase_URL: https://www.digikey.com/product-detail/en/toshiba-semiconductor-and-storage-va/TPS2121RUXR/296-53410-1-ND/9859004?utm_source=snapeda&utm_medium=aggregator&utm_campaign=symbol; Package: VFQFN-12 Texas Instruments
footprint POWERMUXIC_TPS2121RUXR
pins: 1 OUT (out), 1_1 OUT (out), 2 IN2 (in), 2_1 IN2 (in), 3 CP2 (in), 4 OV2 (in), 5 OV1 (in), 6 PR1 (in), 7 IN1 (in), 7_1 IN1 (in), 8 OUT (out), 8_1 OUT (out), 9 ST (out), 10 ILIM, 11 SS, 12 GND (power)

## PowerMux - TPS2111APW
designator U
OR Controller Source Selector Switch N-Channel 2:1 8-TSSOP; MF: Texas Instruments; MP: TPS2111APW; SnapEDA_Link: https://www.snapeda.com/parts/TPS2111APW/Texas%20Instruments/view-part/299213/?ref=snap; Value: *; Price: None; Availability: Unavailable; Package: TSSOP-8 Texas Instruments; Supplier Part No: C471060; Supplier: LCSC
footprint PowerMuxSOP65P640X120-8N
pins: 1 D0 (in), 2 D1 (in), 3 VSNS (in), 4 ILIM (in), 5 GND, 6 IN2 (power), 7 OUT (out), 8 IN1 (power)

## Reflective Sensor - QRE1113GR
designator U
Reflective Optical Sensor 0.197 _5mm_ 4-SMD, Gull Wing; MP: QRE1113GR; MF: ON Semiconductor; Availability: Unavailable; Package: SMD-4 ON Semiconductor; SnapEDA_Link: https://www.snapeda.com/parts/QRE1113GR/ON%20Semiconductor/view-part/1665429/?ref=snap; Price: None; Value: *
footprint Reflective Sensor - SOIC180P460X187-4N
pins: 1 A, 2 C, 3 CT, 4 ET

## Res(Surface)_1
designator R?, comment 1R
Resistor SMD 0805; Published: 8-Jun-2000; LatestRevisionDate: 29-May-2009; LatestRevisionNote: IPC-7351 Footprint Added.; PackageReference: J1-0603; Publisher: Altium Limited; PackageDescription: Chip Resistor; Supplier Part No: C168487; Supplier: LCSC
simulation model RESISTOR (Resistor)
signal-integrity model Res
footprint Res (C0805)
pins: 1, 2

## Res(Surface)_1K
designator R?, comment 1K
Resistor SMD 0805; Suppler Part No: C25623; Published: 8-Jun-2000; LatestRevisionDate: 29-May-2009; LatestRevisionNote: IPC-7351 Footprint Added.; PackageReference: J1-0603; Publisher: Altium Limited; PackageDescription: Chip Resistor; Supplier: LCSC
simulation model RESISTOR (Resistor)
signal-integrity model Res
footprint Res (C0805)
pins: 1, 2

## Res(Surface)_2K
designator R?, comment 2K
Resistor SMD 0805; Published: 8-Jun-2000; LatestRevisionDate: 29-May-2009; LatestRevisionNote: IPC-7351 Footprint Added.; PackageReference: J1-0603; Publisher: Altium Limited; PackageDescription: Chip Resistor; Supplier Part No: C95700; Supplier: LCSC
simulation model RESISTOR (Resistor)
signal-integrity model Res
footprint Res (C0805)
pins: 1, 2

## Res(Surface)_4.7K
designator R?, comment 4.7K
Resistor SMD 0805; Published: 8-Jun-2000; LatestRevisionDate: 29-May-2009; LatestRevisionNote: IPC-7351 Footprint Added.; PackageReference: J1-0603; Publisher: Altium Limited; PackageDescription: Chip Resistor; Supplier Part No: C204524; Supplier: LCSC
simulation model RESISTOR (Resistor)
signal-integrity model Res
footprint Res (C0805)
pins: 1, 2

## Res(Surface)_10K
designator R?, comment 10K
Resistor SMD 0805; Published: 8-Jun-2000; LatestRevisionDate: 29-May-2009; LatestRevisionNote: IPC-7351 Footprint Added.; PackageReference: J1-0603; Publisher: Altium Limited; PackageDescription: Chip Resistor; Supplier Part No: C306152; Supplier: LCSC
simulation model RESISTOR (Resistor)
signal-integrity model Res
footprint Res (C0805)
pins: 1, 2

## Res(Surface)_27K
designator R?, comment 27K
Resistor SMD 0805; Published: 8-Jun-2000; LatestRevisionDate: 29-May-2009; LatestRevisionNote: IPC-7351 Footprint Added.; PackageReference: J1-0603; Publisher: Altium Limited; PackageDescription: Chip Resistor; Supplier Part No: C340476; Supplier: LCSC
simulation model RESISTOR (Resistor)
signal-integrity model Res
footprint Res (C0805)
pins: 1, 2

## Res(Surface)_47K
designator R?, comment 47K
Resistor SMD 0805; Published: 8-Jun-2000; LatestRevisionDate: 29-May-2009; LatestRevisionNote: IPC-7351 Footprint Added.; PackageReference: J1-0603; Publisher: Altium Limited; PackageDescription: Chip Resistor; Supplier Part No: C164000; Supplier: LCSC
simulation model RESISTOR (Resistor)
signal-integrity model Res
footprint Res (C0805)
pins: 1, 2

## Res(Surface)_100
designator R?, comment 100R
Resistor SMD 0805; Published: 8-Jun-2000; LatestRevisionDate: 29-May-2009; LatestRevisionNote: IPC-7351 Footprint Added.; PackageReference: J1-0603; Publisher: Altium Limited; PackageDescription: Chip Resistor; Supplier Part No: C163954; Supplier: LCSC
simulation model RESISTOR (Resistor)
signal-integrity model Res
footprint Res (C0805)
pins: 1, 2

## Res(Surface)_100K
designator R?, comment 100K
Resistor SMD 0805; Published: 8-Jun-2000; LatestRevisionDate: 29-May-2009; LatestRevisionNote: IPC-7351 Footprint Added.; PackageReference: J1-0603; Publisher: Altium Limited; PackageDescription: Chip Resistor; Supplier Part No: C340475; Supplier: LCSC
simulation model RESISTOR (Resistor)
signal-integrity model Res
footprint Res (C0805)
pins: 1, 2

## Res(Surface)_150K
designator R?, comment 150K
Resistor SMD 0805; Published: 8-Jun-2000; LatestRevisionDate: 29-May-2009; LatestRevisionNote: IPC-7351 Footprint Added.; PackageReference: J1-0603; Publisher: Altium Limited; PackageDescription: Chip Resistor; Supplier Part No: C242488; Supplier: LCSC
simulation model RESISTOR (Resistor)
signal-integrity model Res
footprint Res (C0805)
pins: 1, 2

## Res(Surface)_150M
designator R?, comment 150M
Resistor SMD 0805; Published: 8-Jun-2000; LatestRevisionDate: 29-May-2009; LatestRevisionNote: IPC-7351 Footprint Added.; PackageReference: J1-0603; Publisher: Altium Limited; PackageDescription: Chip Resistor
simulation model RESISTOR (Resistor)
signal-integrity model Res
footprint Res (C0805)
pins: 1, 2

## Res(Surface)_200
designator R?, comment 200R
Resistor SMD 0805; Published: 8-Jun-2000; LatestRevisionDate: 29-May-2009; LatestRevisionNote: IPC-7351 Footprint Added.; PackageReference: J1-0603; Publisher: Altium Limited; PackageDescription: Chip Resistor; Supplier Part No: C119079; Supplier: LCSC
simulation model RESISTOR (Resistor)
signal-integrity model Res
footprint Res (C0805)
pins: 1, 2

## Res(Surface)_220
designator R?, comment 220R
Resistor SMD 0805; Published: 8-Jun-2000; LatestRevisionDate: 29-May-2009; LatestRevisionNote: IPC-7351 Footprint Added.; PackageReference: J1-0603; Publisher: Altium Limited; PackageDescription: Chip Resistor; Supplier Part No: C101564; Supplier: LCSC
simulation model RESISTOR (Resistor)
signal-integrity model Res
footprint Res (C0805)
pins: 1, 2

## Res(Surface)_470
designator R?, comment 470R
Resistor SMD 0805; Published: 8-Jun-2000; LatestRevisionDate: 29-May-2009; LatestRevisionNote: IPC-7351 Footprint Added.; PackageReference: J1-0603; Publisher: Altium Limited; PackageDescription: Chip Resistor; Supplier Part No: C21266; Supplier: LCSC
simulation model RESISTOR (Resistor)
signal-integrity model Res
footprint Res (C0805)
pins: 1, 2

## Shift Reg (8bit) -74HC595D
designator U  Supplier Part Number 1: C431479
Shift Shift Register 1 Element 8 Bit 16-SOP; MP: 74HC595D; MF: Toshiba; Availability: Unavailable; SnapEDA_Link: https://www.snapeda.com/parts/74HC595D/avi/view-part/4616588/?ref=snap; Package: SOP-16 Toshiba; Value: *; Price: None; Supplier 1: LCSC
footprint Shift Reg - SOIC127P600X175-16N
pins: 1 Q1 (out), 2 Q2 (out), 3 Q3 (out), 4 Q4 (out), 5 Q5 (out), 6 Q6 (out), 7 Q7 (out), 8 GND, 9 Q7_2 (out), 10 ~{MR}, 11 SH_CP, 12 ST_CP, 13 ~{OE} (in), 14 DS (in), 15 Q0 (out), 16 VCC (power)

## Slide Switch
designator U
Digital Switch Bipolar Switch Digital Hall Effect PG-TSOP6-6-9; MP: TLI4966GHTSA1; MF: Infineon Technologies; Value: *; SnapEDA_Link: https://www.snapeda.com/parts/TLI4966GHTSA1/Infineon%20Technologies/view-part/4572184/?ref=snap; Availability: Unavailable; Package: TSOP6-6 Infineon Technologies; Price: None; Supplier Part No: C223861; Supplier: LCSC
footprint Slide Switch
pins: 1, 2, 3, 4, 5, 6

## SMD_MICRO_USB
designator J?
Manufacturer: Amphenol FCI; Manufacturer Part Number: 10118193-0001LF; Number of Contacts: 5 Contact; Gender: Female; Current Rating: 1.8 A; Brand: FCI; Connector Type: Micro USB Type B receptacle; Insulation Resistance: 1000 MOhms; Mounting Angle: Right; Supplier 1: Digi-Key; Stock 1: 164416; Pricing 1: 1=0.42, 10=0.393, 25=0.3536, 50=0.3144, 100=0.3013, 250=0.2751, 500=0.262 (USD); Product Category: USB Connectors; RoHS: Details; Product: Micro USB Type B Connectors; Standard: USB 2.0; Termination Style: SMD/SMT; Color: Black; Contact Material: Copper Alloy; Contact Plating: Gold; Flammability Rating: UL 94 V-0; Operating Temperature Range: - 55 C to + 85 C; Packaging: Reel; Factory Pack Quantity: 1200; ComponentLink1URL: https://cdn.amphenol-icc.com/media/wysiwyg/files/documentation/datasheet/inputoutput/io_usb_micro.pdf?src-supplier=Digi-Key; ComponentLink1Description: https://cdn.amphenol-icc.com/media/wysiwyg/files/documentation/datasheet/inputoutput/io_usb_micro.pdf?src-supplier=Digi-Key; ComponentLink2URL: https://cdn.amphenol-icc.com/media/wysiwyg/files/documentation/datasheet/inputoutput/io_usb_micro.pdf?src-supplier=Arrow; ComponentLink2Description: https://cdn.amphenol-icc.com/media/wysiwyg/files/documentation/datasheet/inputoutput/io_usb_micro.pdf?src-supplier=Arrow; ComponentLink3URL: http://www.amphenol-icc.com/media/wysiwyg/files/drawing/10118193.pdf?src-supplier=Digi-Key; ComponentLink3Description: http://www.amphenol-icc.com/media/wysiwyg/files/drawing/10118193.pdf?src-supplier=Digi-Key; ComponentLink4URL: https://cdn.amphenol-icc.com/media/wysiwyg/files/documentation/datasheet/inputoutput/io_usb_micro.pdf?src-supplier=Verical; ComponentLink4Description: https://cdn.amphenol-icc.com/media/wysiwyg/files/documentation/datasheet/inputoutput/io_usb_micro.pdf?src-supplier=Verical; ComponentLink5URL: https://cdn.amphenol-icc.com/media/wysiwyg/files/documentation/datasheet/inputoutput/io_usb_micro.pdf?src-supplier=Allied+Electronics; ComponentLink5Description: https://cdn.amphenol-icc.com/media/wysiwyg/files/documentation/datasheet/inputoutput/io_usb_micro.pdf?src-supplier=Allied+Electronics; ComponentLink6URL: https://cdn.amphenol-icc.com/media/wysiwyg/files/documentation/datasheet/inputoutput/io_usb_micro.pdf?src-supplier=Mouser; ComponentLink6Description: https://cdn.amphenol-icc.com/media/wysiwyg/files/documentation/datasheet/inputoutput/io_usb_micro.pdf?src-supplier=Mouser; Supplier Part Number 1: 609-4616-6-ND
footprint MICRO_USB_SMD
pins: 1, 2, 3, 4, 5, 6, 7, 8, 9, 10, 11
text: 5V; D-; D+; ID; G

## SMT Diode 1N4148WSQ-7-F
designator D?
Diode Standard 75V 150mA Surface Mount SOD-323; MP: 1N4148WSQ-7-F; MF: Diodes Inc.; Package: SOD-323 Diodes Inc.; Value: *; Price: None; SnapEDA_Link: https://www.snapeda.com/parts/1N4148WSQ-7-F/Diodes%20Inc./view-part/1118381/?ref=snap; Availability: Unavailable; Supplier 1: LCSC; Supplier Part Number 1: C176908
footprint SMT Diode - SOD2513X120N
pins: A, C

## Tant Cap F921A106MPA
designator C?, comment F921A106MPA  (value not drawn)
10ÂµF Molded Tantalum Capacitors 10V 0805 _2012 Metric_ 6Ohm; MF: AVX; Package: 0805 AVX; MP: F921A106MPA; Availability: Unavailable; Price: None; SnapEDA_Link: https://www.snapeda.com/parts/F921A106MPA/AVX%20/%20Kyocera/view-part/1682063/?ref=snap; Value: *; Supplier 1: LCSC; Supplier Part Number 1: C7195
footprint CAPC (Tant) 2012X140N
pins: 1, 2

## Zener Diode - MSZ5226B-7-F
designator D?, comment Zener Diode 6.8V  Supplier Part Number 1: C82084
Zener Diode 3.3V 500mW Â±5% Surface Mount SOD-123; MF: Diodes Inc.; MP: MMSZ5226B-7-F; Price: None; Availability: Unavailable; SnapEDA_Link: https://www.snapeda.com/parts/MMSZ5226B-7-F/Diodes%20Inc./view-part/829072/?ref=snap; Package: SOD-123 Diodes Inc.; Value: *; Supplier 1: LCSC
footprint SOD3715X SOD123
pins: 1 C, 2 A